# EAGLE library part JTAG-20P (library Scott-Connectors)
WR-PHD 1.27 mm SMT Dual Pin Header, H=3.80 mm (Reel) Datasheet https://katalog.we-online.com/em/datasheet/62132021021.pdf ARTICLE PROPERTIES: Pins:4;​ 6;​ 8;​ 10;​ 14;​ 16;​ 20;​ 28;​ 40;​ 44;​ 50 KIND PROPERTIES: Pitch：1.27 mm Quality Class:3 as per CECC 75 301-802 Rows：Dual Gender：Pin Header Type：Straight MATERIAL PROPERTIES: Insulator Material :PA9T Insulator Flammability Rating:UL94 V-0 Contact Material:Copper Alloy Contact Plating:Gold Contact Type:Stamped GENERAL INFORMATION Operating Temperature:-40 up to +105 °C Compliance:Lead free / RoHS ELECTRICAL PROPERTIES: Rated Current:1 A;​ max. IR1:1 A Withstanding Voltage:500 V (AC) Contact Resistance:20 mΩ RISO:1000 MΩ CERTIFICATION UL Approval:E323964 PACKAGING PROPERTIES Packaging:Tape and Reel with Cap Packaging Unit:600 <https://katalog.we-online.com/media/images/v2/o33195v209%20Family_WR-PDH_621xxx21021.jpg> Details see: https://katalog.we-online.com/en/em/PHD_1_27_SMT_DUAL_PIN_HEADER_REEL_6213XX21021 Updated by Yingchun,Shan 2019-10-25 2019 (C) Würth Elektronik
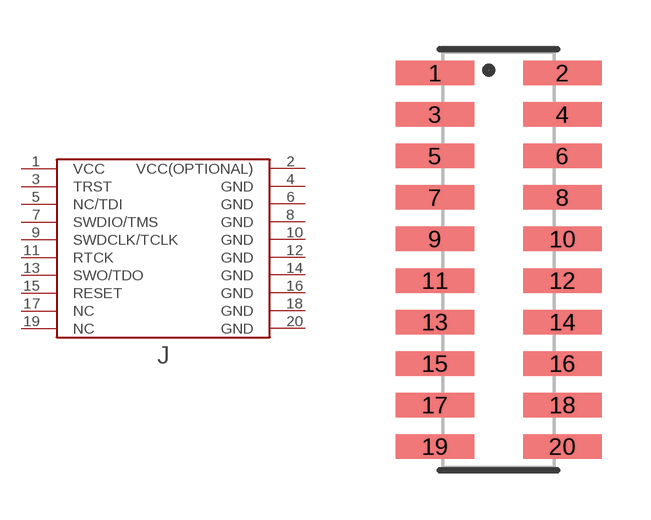
[diagram p6: symbol with the pads of SMD_1.27_2X10; footprint SMD_1.27_2X10]

Designator prefix J

## JTAG-20P-SMD (MFR_P: 62132021021)  [SMD_1.27_2X10]
1  VCC  pas
2  VCC(OPTIONAL)  pas
3  TRST  pas
4  GND  pas
5  NC/TDI  pas
6  GND  pas
7  SWDIO/TMS  pas
8  GND  pas
9  SWDCLK/TCLK  pas
10  GND  pas
11  RTCK  pas
12  GND  pas
13  SWO/TDO  pas
14  GND  pas
15  RESET  pas
16  GND  pas
17  NC  pas
18  GND  pas
19  NC  pas
20  GND  pas

## Footprint SMD_1.27_2X10 (pad centres in mm)
WR-PHD 1.27 mm SMT Dual Pin Header, H=3.80 mm, 20Pins
smd 2.4 x 0.75: 1 -1.95,5.08; 2 1.95,5.08; 3 -1.95,3.81; 4 1.95,3.81; 5 -1.95,2.54; 6 1.95,2.54; 7 -1.95,1.27; 8 1.95,1.27; 9 -1.95,0; 10 1.95,0; 11 -1.95,-1.27; 12 1.95,-1.27; 13 -1.95,-2.54; 14 1.95,-2.54; 15 -1.95,-3.81; 16 1.95,-3.81; 17 -1.95,-5.08; 18 1.95,-5.08; 19 -1.95,-6.35; 20 1.95,-6.35